# Altium schematic symbol library Digital_ICs.SchLib: 3 symbols
Pins are listed as number, name and electrical type; pins without a type are passive.

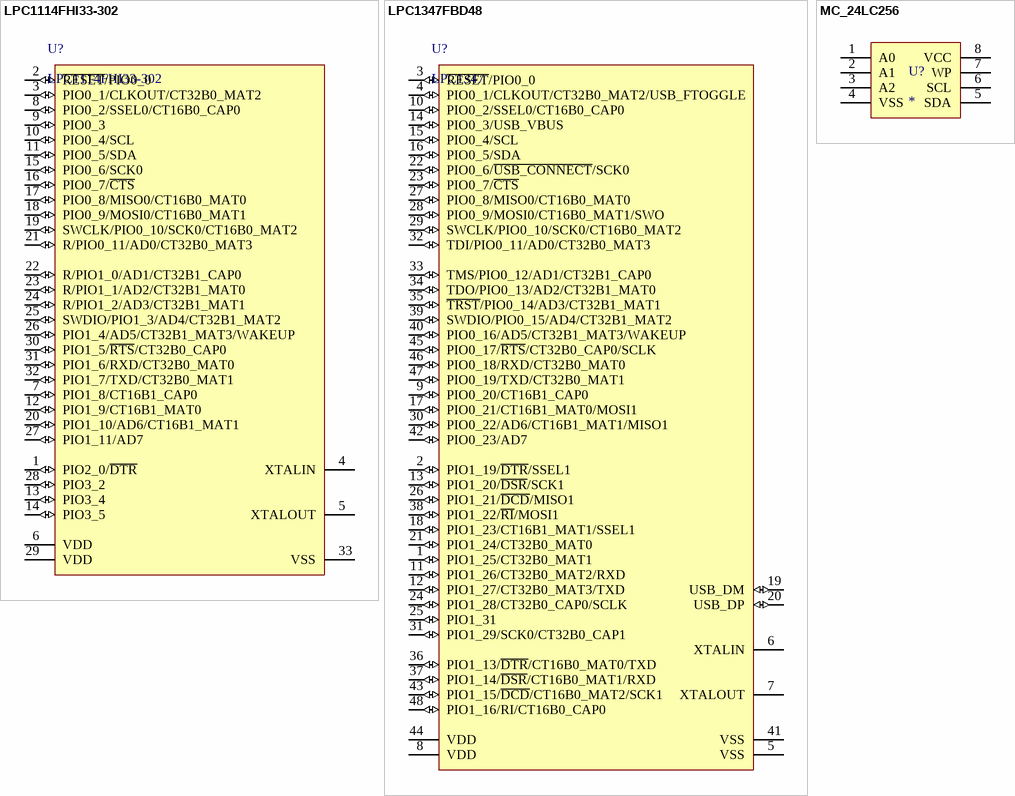
[diagram p0: symbols LPC1114FHI33-302 to MC_24LC256]

## LPC1114FHI33-302
designator U?
NXP Cortex-M0 MCU in 32 HVQFN (+ thermal pad); ComponentLink1URL: http://sv-code.cm.local/svn/datasheets/NXP/mcu/lpc1114/lpc1111.lpc1112.lpc1113.lpc1114.pdf; ComponentLink1Description: Datasheet; ComponentLink2Description: User Manual; ComponentLink2URL: http://sv-code.cm.local/svn/datasheets/NXP/mcu/lpc1114/user.manual.lpc11xx.lpc11cxx.pdf; Supplier 1: Mouser; Supplier 2: Farnell; Supplier Part Number 1: 771-LPC1114FHI333025; Supplier Part Number 2: 2094279; Manufacturer: NXP; PartNumber: LPC1114FHI33-302
footprint NXP-HVQFN32 (QFN, 32-Leads, Body 5x5mm, Pitch 0.5mm, Thermal Pad 3.5x3.5mm, NXP Recommended)
pins: 1 PIO2_0/~{DTR} (io), 2 ~{RESET}/PIO0_0 (io), 3 PIO0_1/CLKOUT/CT32B0_MAT2 (io), 4 XTALIN, 5 XTALOUT, 6 VDD (power), 7 PIO1_8/CT16B1_CAP0 (io), 8 PIO0_2/SSEL0/CT16B0_CAP0 (io), 9 PIO0_3 (io), 10 PIO0_4/SCL (io), 11 PIO0_5/SDA (io), 12 PIO1_9/CT16B1_MAT0 (io), 13 PIO3_4 (io), 14 PIO3_5 (io), 15 PIO0_6/SCK0 (io), 16 PIO0_7/~{CTS} (io), 17 PIO0_8/MISO0/CT16B0_MAT0 (io), 18 PIO0_9/MOSI0/CT16B0_MAT1 (io), 19 SWCLK/PIO0_10/SCK0/CT16B0_MAT2 (io), 20 PIO1_10/AD6/CT16B1_MAT1 (io), 21 R/PIO0_11/AD0/CT32B0_MAT3 (io), 22 R/PIO1_0/AD1/CT32B1_CAP0 (io), 23 R/PIO1_1/AD2/CT32B1_MAT0 (io), 24 R/PIO1_2/AD3/CT32B1_MAT1 (io), 25 SWDIO/PIO1_3/AD4/CT32B1_MAT2 (io), 26 PIO1_4/AD5/CT32B1_MAT3/WAKEUP (io), 27 PIO1_11/AD7 (io), 28 PIO3_2 (io), 29 VDD (power), 30 PIO1_5/~{RTS}/CT32B0_CAP0 (io), 31 PIO1_6/RXD/CT32B0_MAT0 (io), 32 PIO1_7/TXD/CT32B0_MAT1 (io), 33 VSS (power)

## LPC1347FBD48
designator U?, comment LPC1347
Cortex-M3, 32-Bit ARM MCU, 64 kB flash, 8 kB SRAM, 72 MHz USB device, 48-Pin LQFP; PartNumber: LPC1347FBD48; fmax: 72 MHz; SRAM: 8 kB; Flash: 64 kB; GPIOs: 40; USB: 1; SPI: 2; PLL: Y; ADC channels: 8; Timers: 4; VDD (min): 2 V; VDD (typ): 3.3 V; VDD (max): 3.6 V; Code_IEC: 136E05; DatasheetVersion: Rev. 4, Jun-2011; PackageVersion: 37677; PackageReference: SOT313-2; PackageDescription: LQFP48: Plastic Low Profile Quad Flat Package; 48 Leads; Body 7 x 7 x 1.4 mm; UART: 1; I2C: 1; SSP: 1; Code_JEDEC: MS-026; ComponentLink1Description: Manufacturer URL; ComponentLink1URL: http://www.nxp.com/; ComponentLink2Description: Datasheet; ComponentLink2URL: http://www.nxp.com/documents/data_sheet/LPC1315_16_17_45_46_47.pdf
footprint SOT313-2_L (Thin QFP, 48-Leads, Body 7x7mm, Pitch 0.5mm, IPC High Density)
footprint SOT313-2_M (Thin QFP, 48-Leads, Body 7x7mm, Pitch 0.5mm, IPC Low Density)
footprint SOT313-2_N (Thin QFP, 48-Leads, Body 7x7mm, Pitch 0.5mm, IPC Medium Density)
footprint SOT313-2_V (Thin QFP, 48-Leads, Body 7x7mm, Pitch 0.5mm, NXP Recommended)
pins: 1 PIO1_25/CT32B0_MAT1 (io), 2 PIO1_19/~{DTR}/SSEL1 (io), 3 ~{RESET}/PIO0_0 (io), 4 PIO0_1/CLKOUT/CT32B0_MAT2/USB_FTOGGLE (io), 5 VSS (power), 6 XTALIN, 7 XTALOUT, 8 VDD (power), 9 PIO0_20/CT16B1_CAP0 (io), 10 PIO0_2/SSEL0/CT16B0_CAP0 (io), 11 PIO1_26/CT32B0_MAT2/RXD (io), 12 PIO1_27/CT32B0_MAT3/TXD (io), 13 PIO1_20/~{DSR}/SCK1 (io), 14 PIO0_3/USB_VBUS (io), 15 PIO0_4/SCL (io), 16 PIO0_5/SDA (io), 17 PIO0_21/CT16B1_MAT0/MOSI1 (io), 18 PIO1_23/CT16B1_MAT1/SSEL1 (io), 19 USB_DM (io), 20 USB_DP (io), 21 PIO1_24/CT32B0_MAT0 (io), 22 PIO0_6/~{USB_CONNECT}/SCK0 (io), 23 PIO0_7/~{CTS} (io), 24 PIO1_28/CT32B0_CAP0/SCLK (io), 25 PIO1_31 (io), 26 PIO1_21/~{DCD}/MISO1 (io), 27 PIO0_8/MISO0/CT16B0_MAT0 (io), 28 PIO0_9/MOSI0/CT16B0_MAT1/SWO (io), 29 SWCLK/PIO0_10/SCK0/CT16B0_MAT2 (io), 30 PIO0_22/AD6/CT16B1_MAT1/MISO1 (io), 31 PIO1_29/SCK0/CT32B0_CAP1 (io), 32 TDI/PIO0_11/AD0/CT32B0_MAT3 (io), 33 TMS/PIO0_12/AD1/CT32B1_CAP0 (io), 34 TDO/PIO0_13/AD2/CT32B1_MAT0 (io), 35 ~{TRST}/PIO0_14/AD3/CT32B1_MAT1 (io), 36 PIO1_13/~{DTR}/CT16B0_MAT0/TXD (io), 37 PIO1_14/~{DSR}/CT16B0_MAT1/RXD (io), 38 PIO1_22/~{RI}/MOSI1 (io), 39 SWDIO/PIO0_15/AD4/CT32B1_MAT2 (io), 40 PIO0_16/AD5/CT32B1_MAT3/WAKEUP (io), 41 VSS (power), 42 PIO0_23/AD7 (io), 43 PIO1_15/~{DCD}/CT16B0_MAT2/SCK1 (io), 44 VDD (power), 45 PIO0_17/~{RTS}/CT32B0_CAP0/SCLK (io), 46 PIO0_18/RXD/CT32B0_MAT0 (io), 47 PIO0_19/TXD/CT32B0_MAT1 (io), 48 PIO1_16/RI/CT16B0_CAP0 (io)

## MC_24LC256
designator U?
256kbit E2PROM
footprint SOIC8N_127P600X175 (SOIC, 8-Leads, Body 4.90x3.90mm, Pitch 1.27mm, IPC Medium Density)
pins: 1 A0, 2 A1, 3 A2, 4 VSS, 5 SDA, 6 SCL, 7 WP, 8 VCC